# Altium footprint library PASSIVE_SMD.PCBLIB: 238 footprints (part 3 of 15)
Each footprint in its own frame and in the unit in brackets; x right, y up, seen from the top. Pads: shape width x height; smd on the part's side, far side on the other; paste and mask are expansions set on the pad; w line width, h text height; cw(c..) or ccw(c..) is an arc to the next point about the centre after c.
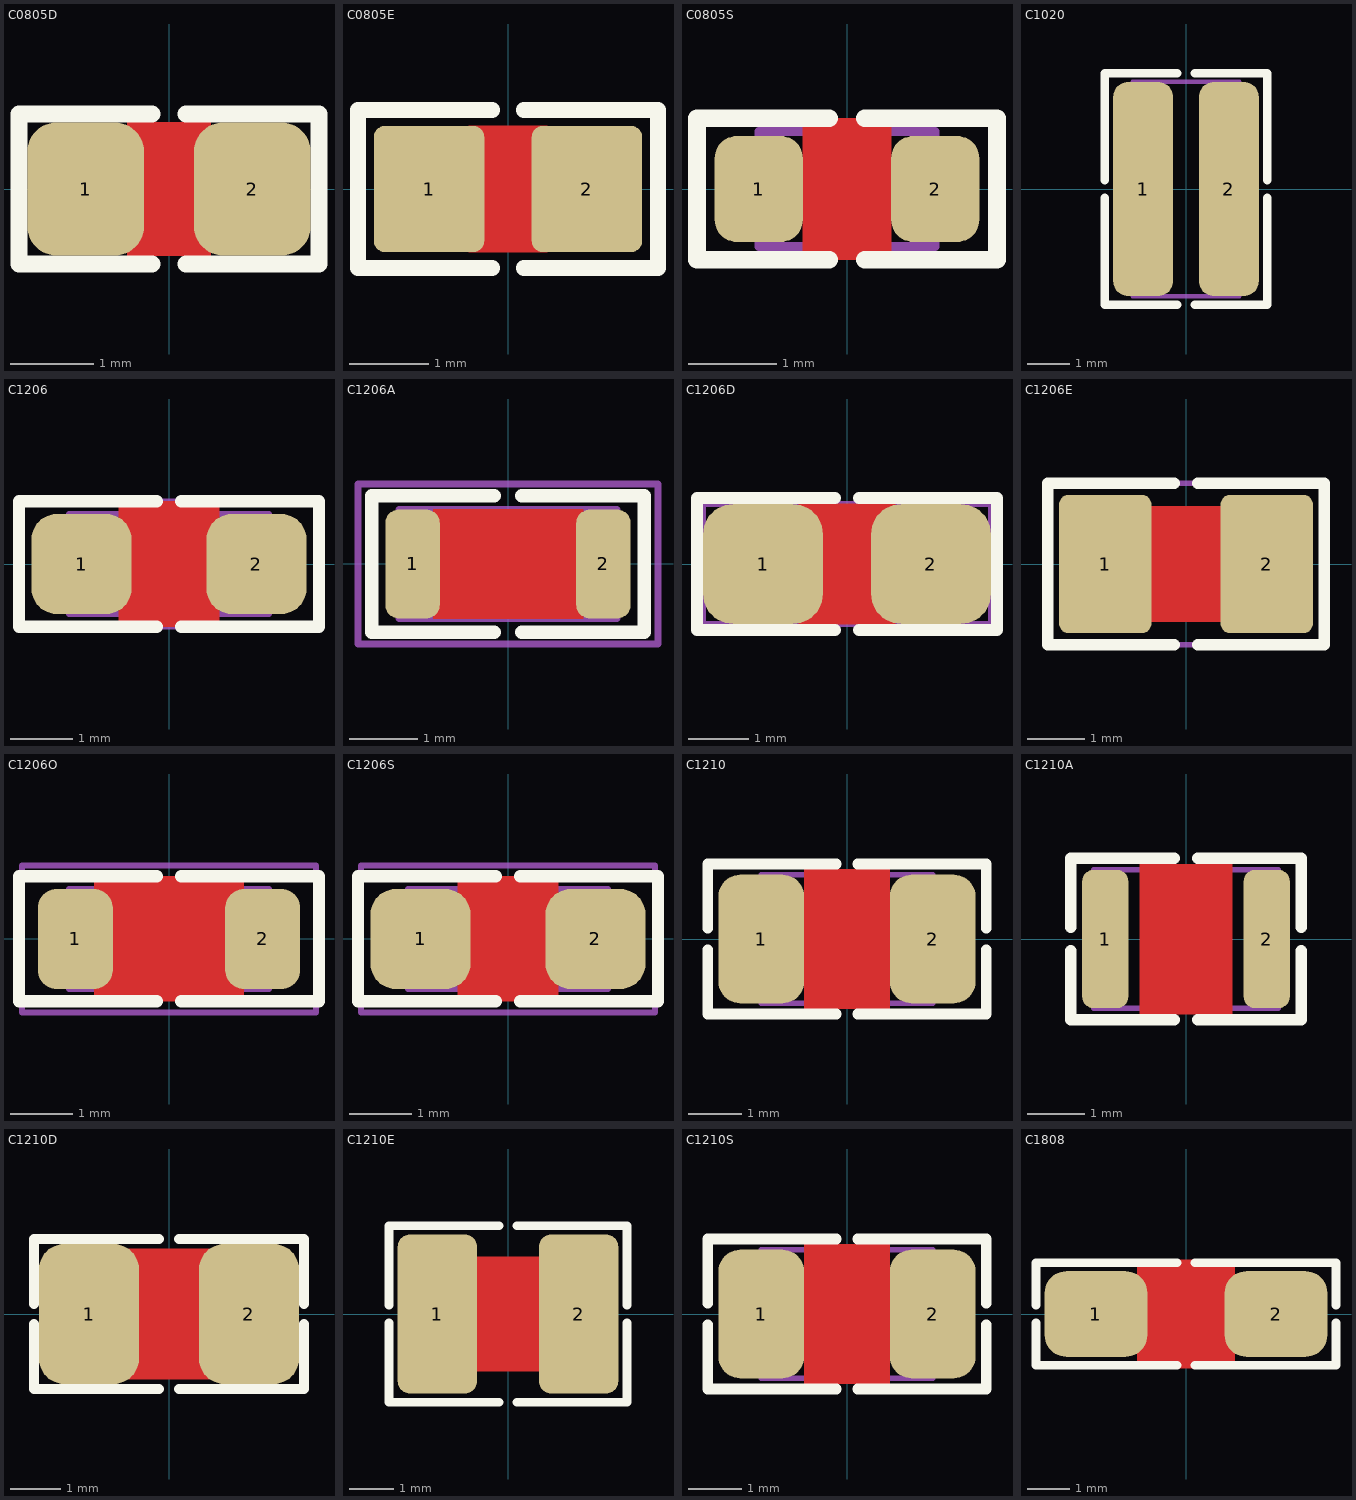
[diagram p2: the footprints below, top view; thin cyan lines are the x and y axes]

## C0805D [mm] "CHIP Capacitor, 2.0X1.3mm, 0805, SMD (SolderMask Defined)"
pads (2):
  rrect50% 1.4x1.6 smd paste-5 mask-0.2: 1(-1,0) 2(1,0)
Top Layer:
  pour cut-out: -0.5,0.8 0.5,0.8 0.5,-0.8 -0.5,-0.8
Top Overlay:
  lines w0.2: -0.2,-0.9 -1.8,-0.9 -1.8,0.9 -0.2,0.9 ; 0.2,-0.9 1.8,-0.9 1.8,0.9 0.2,0.9
Top Paste:
  region: -0.9,0.5 -0.82,0.5 -0.673,0.439 -0.561,0.327 -0.5,0.18 -0.5,0.1 -0.5,-0.1 -0.5,-0.18 -0.561,-0.327 -0.673,-0.439 -0.82,-0.5 -0.9,-0.5 -1.15,-0.5 -1.18,-0.5 -1.235,-0.477 -1.277,-0.435 -1.3,-0.38 -1.3,-0.35 -1.3,0.35 -1.3,0.38 -1.277,0.435 -1.235,0.477 -1.18,0.5 -1.15,0.5
  region: 0.9,0.5 0.82,0.5 0.673,0.439 0.561,0.327 0.5,0.18 0.5,0.1 0.5,-0.1 0.5,-0.18 0.561,-0.327 0.673,-0.439 0.82,-0.5 0.9,-0.5 1.15,-0.5 1.18,-0.5 1.235,-0.477 1.277,-0.435 1.3,-0.38 1.3,-0.35 1.3,0.35 1.3,0.38 1.277,0.435 1.235,0.477 1.18,0.5 1.15,0.5
Mechanical 13:
  lines w0.1: -1,-0.65 -1,0.65 1,0.65 1,-0.65 -1,-0.65
3D body "User Library-CAPC2013X10.step": height 1, standoff 0, extent -1,-0.625 1,0.625

## C0805E [mm] "CHIP Capacitor, 2.0X1.3mm, 0805, EXPANDED PAD"
pads (2):
  rrect20% 1.4x1.6 smd paste-0.7 mask+0.1: 1(-1,0) 2(1,0)
Top Layer:
  pour cut-out: -0.5,0.8 0.5,0.8 0.5,-0.8 -0.5,-0.8
Top Overlay:
  lines w0.2: -0.2,-1 -1.9,-1 -1.9,1 -0.2,1 ; 0.2,-1 1.9,-1 1.9,1 0.2,1
Top Paste:
  region: 0.5,0.2 0.5,0.28 0.561,0.427 0.673,0.539 0.82,0.6 0.9,0.6 1.4,0.6 1.44,0.6 1.513,0.57 1.57,0.513 1.6,0.44 1.6,0.4 1.6,-0.4 1.6,-0.44 1.57,-0.513 1.513,-0.57 1.44,-0.6 1.4,-0.6 0.9,-0.6 0.82,-0.6 0.673,-0.539 0.561,-0.427 0.5,-0.28 0.5,-0.2
  region: -0.5,0.2 -0.5,0.28 -0.561,0.427 -0.673,0.539 -0.82,0.6 -0.9,0.6 -1.4,0.6 -1.44,0.6 -1.513,0.57 -1.57,0.513 -1.6,0.44 -1.6,0.4 -1.6,-0.4 -1.6,-0.44 -1.57,-0.513 -1.513,-0.57 -1.44,-0.6 -1.4,-0.6 -0.9,-0.6 -0.82,-0.6 -0.673,-0.539 -0.561,-0.427 -0.5,-0.28 -0.5,-0.2
3D body "User Library-CAPC2013X10.step": height 1, standoff 0, extent -1,-0.625 1,0.625

## C0805S [mm] "CHIP Capacitor, 2.0X1.3mm, 0805, soldered"
pads (2):
  rrect50% 1x1.2 smd paste-0.1 mask+0.075: 1(-1,0) 2(1,0)
Top Layer:
  pour cut-out: -0.5,0.8 0.5,0.8 0.5,-0.8 -0.5,-0.8
Top Overlay:
  lines w0.2: -0.2,-0.8 -1.7,-0.8 -1.7,0.8 -0.2,0.8 ; 0.2,-0.8 1.7,-0.8 1.7,0.8 0.2,0.8
Mechanical 13:
  lines w0.1: -1,-0.65 -1,0.65 1,0.65 1,-0.65 -1,-0.65
3D body "c0805_Cap.step": height 0.8, standoff 0, extent -1.4,-0.625 1.4,0.625

## C1020 [mm] "CHIP Capacitor, 2.50x5.00mm"
height 0.6
pads (2):
  rrect50% 1.4x5 smd mask+0.1: 1(-1,0) 2(1,0)
Top Overlay:
  lines w0.2: -1.9,-0.2 -1.9,-2.7 -0.2,-2.7 ; -1.9,0.2 -1.9,2.7 -0.2,2.7 ; 0.2,-2.7 1.9,-2.7 1.9,-0.2 ; 0.2,2.7 1.9,2.7 1.9,0.2
Mechanical 13:
  lines w0.1: -1.25,-2.5 1.25,-2.5 1.25,2.5 -1.25,2.5 -1.25,-2.5
3D body: height 0.6, standoff 0, extent 0.35,-2.5 1.25,2.5
3D body: height 0.6, standoff 0, extent -1.25,-2.5 -0.35,2.5
3D body: height 0.6, standoff 0, extent -0.35,-2.5 0.35,2.5

## C1206 [mm] "CHIP Capacitor, 3.2X1.6mm, 1206"
height 2
pads (2):
  rrect50% 1.6x1.6 smd paste-0.8 mask+0.075: 1(-1.4,0) 2(1.4,0)
Top Layer:
  pour cut-out: -0.8,1 -0.8,-1 0.8,-1 0.8,1
Top Overlay:
  lines w0.2: -0.2,-1 -2.4,-1 -2.4,1 -0.2,1 ; 0.2,-1 2.4,-1 2.4,1 0.2,1
Top Paste:
  region: -0.7,-0.1 -0.7,0.1 -0.7,0.219 -0.791,0.44 -0.96,0.609 -1.181,0.7 -1.3,0.7 -1.8,0.7 -1.86,0.7 -1.97,0.654 -2.054,0.57 -2.1,0.46 -2.1,0.4 -2.1,-0.4 -2.1,-0.46 -2.054,-0.57 -1.97,-0.654 -1.86,-0.7 -1.8,-0.7 -1.3,-0.7 -1.181,-0.7 -0.96,-0.609 -0.791,-0.44 -0.7,-0.219
  region: 0.7,-0.1 0.7,0.1 0.7,0.219 0.791,0.44 0.96,0.609 1.181,0.7 1.3,0.7 1.8,0.7 1.86,0.7 1.97,0.654 2.054,0.57 2.1,0.46 2.1,0.4 2.1,-0.4 2.1,-0.46 2.054,-0.57 1.97,-0.654 1.86,-0.7 1.8,-0.7 1.3,-0.7 1.181,-0.7 0.96,-0.609 0.791,-0.44 0.7,-0.219
Mechanical 13:
  lines w0.1: -1.6,-0.8 1.6,-0.8 1.6,0.8 -1.6,0.8 -1.6,-0.8
Mechanical 15:
  lines w0.1: -0.5,0 0.5,0 ; 0,-0.5 0,0.5 ; -2.4,-1 2.4,-1 2.4,1 -2.4,1 -2.4,-1
3D body "User Library-CAPC3216X10.step": height 1, standoff 0, extent -1.6,-0.8 1.6,0.8

## C1206A [mm] "CHIP Capacitor, 3.2X1.6mm, 1206, for PCBA"
height 2
pads (2):
  rrect50% 0.8x1.6 smd mask+0.075: 1(-1.4,0) 2(1.4,0)
Top Layer:
  pour cut-out: -1.1,0.8 -1.1,-0.8 1.1,-0.8 1.1,0.8
Top Overlay:
  lines w0.2: -0.2,-1 -2,-1 -2,1 -0.2,1 ; 0.2,-1 2,-1 2,1 0.2,1
Mechanical 13:
  lines w0.1: -1.6,-0.8 1.6,-0.8 1.6,0.8 -1.6,0.8 -1.6,-0.8
Mechanical 15:
  lines w0.1: -0.5,0 0.5,0 ; 0,-0.5 0,0.5 ; -2.2,-1.175 -2.2,1.175 2.2,1.175 2.2,-1.175 -2.2,-1.175
3D body "User Library-CAPC3216X10.step": height 1, standoff 0, extent -1.6,-0.8 1.6,0.8

## C1206D [mm] "CHIP Capacitor, 3.2X1.6mm, 1206, SMD (SolderMask Defined)"
height 2
pads (2):
  rrect50% 2x2 smd paste-1 mask-0.2: 1(-1.4,0) 2(1.4,0)
Top Layer:
  pour cut-out: -0.8,1 -0.8,-1 0.8,-1 0.8,1
Top Overlay:
  lines w0.2: -0.2,-1.1 -2.5,-1.1 -2.5,1.1 -0.2,1.1 ; 0.2,-1.1 2.5,-1.1 2.5,1.1 0.2,1.1
Top Paste:
  region: 0.7,-0.1 0.7,0.1 0.7,0.219 0.791,0.44 0.96,0.609 1.181,0.7 1.3,0.7 1.8,0.7 1.86,0.7 1.97,0.654 2.054,0.57 2.1,0.46 2.1,0.4 2.1,-0.4 2.1,-0.46 2.054,-0.57 1.97,-0.654 1.86,-0.7 1.8,-0.7 1.3,-0.7 1.181,-0.7 0.96,-0.609 0.791,-0.44 0.7,-0.219
  region: -0.7,-0.1 -0.7,0.1 -0.7,0.219 -0.791,0.44 -0.96,0.609 -1.181,0.7 -1.3,0.7 -1.8,0.7 -1.86,0.7 -1.97,0.654 -2.054,0.57 -2.1,0.46 -2.1,0.4 -2.1,-0.4 -2.1,-0.46 -2.054,-0.57 -1.97,-0.654 -1.86,-0.7 -1.8,-0.7 -1.3,-0.7 -1.181,-0.7 -0.96,-0.609 -0.791,-0.44 -0.7,-0.219
Mechanical 13:
  lines w0.1: -1.6,-0.8 -1.6,0.8 1.6,0.8 1.6,-0.8 -1.6,-0.8
Mechanical 15:
  lines w0.1: -0.5,0 0.5,0 ; 0,-0.5 0,0.5 ; -2.4,-1 -2.4,1 2.4,1 2.4,-1 -2.4,-1
3D body "User Library-CAPC3216X10.step": height 1, standoff 0, extent -1.6,-0.8 1.6,0.8

## C1206E [mm] "CHIP Capacitor, 3.2X1.6mm, 1206, EXPANDED PAD"
height 2
pads (2):
  rrect20% 1.6x2.4 smd paste-0.8 mask+0.075: 1(-1.4,0) 2(1.4,0)
Top Layer:
  pour cut-out: -0.8,1 -0.8,-1 0.8,-1 0.8,1
Top Overlay:
  lines w0.2: -0.2,-1.4 -2.4,-1.4 -2.4,1.4 -0.2,1.4 ; 0.2,-1.4 2.4,-1.4 2.4,1.4 0.2,1.4
Top Paste:
  region: -0.7,-0.2 -0.7,0.25 -0.7,0.359 -0.784,0.562 -0.938,0.716 -1.141,0.8 -1.25,0.8 -1.95,0.8 -1.99,0.8 -2.063,0.77 -2.12,0.713 -2.15,0.64 -2.15,0.6 -2.15,-0.55 -2.15,-0.59 -2.12,-0.663 -2.063,-0.72 -1.99,-0.75 -1.95,-0.75 -1.25,-0.75 -1.141,-0.75 -0.938,-0.666 -0.784,-0.512 -0.7,-0.309
  region: 0.7,-0.2 0.7,0.25 0.7,0.359 0.784,0.562 0.938,0.716 1.141,0.8 1.25,0.8 1.95,0.8 1.99,0.8 2.063,0.77 2.12,0.713 2.15,0.64 2.15,0.6 2.15,-0.55 2.15,-0.59 2.12,-0.663 2.063,-0.72 1.99,-0.75 1.95,-0.75 1.25,-0.75 1.141,-0.75 0.938,-0.666 0.784,-0.512 0.7,-0.309
Mechanical 13:
  lines w0.1: -1.6,-0.8 -1.6,0.8 1.6,0.8 1.6,-0.8 -1.6,-0.8
Mechanical 15:
  lines w0.1: -0.5,0 0.5,0 ; 0,-0.5 0,0.5 ; -2.4,-1.4 2.4,-1.4 2.4,1.4 -2.4,1.4 -2.4,-1.4
3D body "User Library-CAPC3216X10.step": height 1, standoff 0, extent -1.6,-0.8 1.6,0.8

## C1206O [mm] "CHIP Capacitor, 3.2X1.6mm, 1206"
height 2
pads (2):
  rrect50% 1.2x1.6 smd mask+0.075: 1(-1.5,0) 2(1.5,0)
Top Layer:
  pour cut-out: -1.2,1 -1.2,-1 1.2,-1 1.2,1
Top Overlay:
  lines w0.2: -0.2,-1 -2.4,-1 -2.4,1 -0.2,1 ; 0.2,-1 2.4,-1 2.4,1 0.2,1
Mechanical 13:
  lines w0.1: -1.6,-0.8 1.6,-0.8 1.6,0.8 -1.6,0.8 -1.6,-0.8
Mechanical 15:
  lines w0.1: -0.5,0 0.5,0 ; 0,-0.5 0,0.5 ; -2.35,-1.175 2.35,-1.175 2.35,1.175 -2.35,1.175 -2.35,-1.175
3D body "User Library-CAPC3216X10.step": height 1, standoff 0, extent -1.6,-0.8 1.6,0.8

## C1206S [mm] "CHIP Capacitor, 3.2X1.6mm, 1206, soldered"
height 2
pads (2):
  rrect50% 1.6x1.6 smd paste-0.1 mask+0.075: 1(-1.4,0) 2(1.4,0)
Top Layer:
  pour cut-out: -0.8,1 -0.8,-1 0.8,-1 0.8,1
Top Overlay:
  lines w0.2: -0.2,-1 -2.4,-1 -2.4,1 -0.2,1 ; 0.2,-1 2.4,-1 2.4,1 0.2,1
Mechanical 13:
  lines w0.1: -1.6,-0.8 -1.6,0.8 1.6,0.8 1.6,-0.8 -1.6,-0.8
Mechanical 15:
  lines w0.1: -0.5,0 0.5,0 ; 0,-0.5 0,0.5 ; -2.35,-1.175 -2.35,1.175 2.35,1.175 2.35,-1.175 -2.35,-1.175
3D body "c1206_Cap.step": height 1.25, standoff 0, extent -2.27,-0.8 2.27,0.8

## C1210 [mm] "CHIP Capacitor, 3.2X2.5mm, 1210, 3225"
pads (2):
  rrect50% 1.6x2.4 smd paste-0.157 mask+0.075: 1(-1.6,0) 2(1.6,0)
Top Layer:
  pour cut-out: -0.8,1.3 -0.8,-1.3 0.8,-1.3 0.8,1.3
Top Overlay:
  lines w0.2: -2.6,-0.2 -2.6,-1.4 -0.2,-1.4 ; -2.6,0.2 -2.6,1.4 -0.2,1.4 ; 0.2,-1.4 2.6,-1.4 2.6,-0.2 ; 0.2,1.4 2.6,1.4 2.6,0.2
Mechanical 13:
  lines w0.1: -1.6,-1.2 1.6,-1.2 1.6,1.2 -1.6,1.2 -1.6,-1.2
3D body "User Library-CAPC3225X10.step": height 1, standoff 0, extent -1.6,-1.25 1.6,1.25

## C1210A [mm] "CHIP Capacitor, 3.2X2.5mm, 1210, for PCBA"
pads (2):
  rrect50% 0.8x2.4 smd mask+0.075: 1(-1.4,0) 2(1.4,0)
Top Layer:
  pour cut-out: -0.8,1.3 -0.8,-1.3 0.8,-1.3 0.8,1.3
Top Overlay:
  lines w0.2: -2,-0.2 -2,-1.4 -0.2,-1.4 ; -2,0.2 -2,1.4 -0.2,1.4 ; 0.2,-1.4 2,-1.4 2,-0.2 ; 0.2,1.4 2,1.4 2,0.2
Mechanical 13:
  lines w0.1: -1.6,-1.2 1.6,-1.2 1.6,1.2 -1.6,1.2 -1.6,-1.2
3D body "User Library-CAPC3225X10.step": height 1, standoff 0, extent -1.6,-1.25 1.6,1.25

## C1210D [mm] "CHIP Capacitor, 3.2X2.5mm, 1210, 3225, SMD (SolderMask Defined)"
pads (2):
  rrect50% 2x2.8 smd paste-0.342 mask-0.2: 1(-1.6,0) 2(1.6,0)
Top Layer:
  pour cut-out: -0.8,1.3 -0.8,-1.3 0.8,-1.3 0.8,1.3
Top Overlay:
  lines w0.2: -2.7,-0.2 -2.7,-1.5 -0.2,-1.5 ; -2.7,0.2 -2.7,1.5 -0.2,1.5 ; 0.2,-1.5 2.7,-1.5 2.7,-0.2 ; 0.2,1.5 2.7,1.5 2.7,0.2
Mechanical 13:
  lines w0.1: -1.6,-1.2 1.6,-1.2 1.6,1.2 -1.6,1.2 -1.6,-1.2
3D body "User Library-CAPC3225X10.step": height 1, standoff 0, extent -1.6,-1.25 1.6,1.25

## C1210E [mm] "CHIP Capacitor, 3.2X2.5mm, EXPANDED PAD"
pads (2):
  rrect30% 1.8x3.6 smd paste-0.195 mask+0.075: 1(-1.6,0) 2(1.6,0)
Top Layer:
  pour cut-out: -0.8,1.3 -0.8,-1.3 0.8,-1.3 0.8,1.3
Top Overlay:
  lines w0.2: -2.7,-0.2 -2.7,-2 -0.2,-2 ; -2.7,0.2 -2.7,2 -0.2,2 ; 0.2,-2 2.7,-2 2.7,-0.2 ; 0.2,2 2.7,2 2.7,0.2
Mechanical 13:
  lines w0.1: -1.6,-1.2 -1.6,1.2 1.6,1.2 1.6,-1.2 -1.6,-1.2
3D body "User Library-CAPC3225X10.step": height 1, standoff 0, extent -1.6,-1.25 1.6,1.25

## C1210S [mm] "CHIP Capacitor, 3.2X2.5mm, 1210, 3225, Soldered"
pads (2):
  rrect50% 1.6x2.4 smd paste-0.157 mask+0.075: 1(-1.6,0) 2(1.6,0)
Top Layer:
  pour cut-out: -0.8,1.3 -0.8,-1.3 0.8,-1.3 0.8,1.3
Top Overlay:
  lines w0.2: -2.6,-0.2 -2.6,-1.4 -0.2,-1.4 ; -2.6,0.2 -2.6,1.4 -0.2,1.4 ; 0.2,-1.4 2.6,-1.4 2.6,-0.2 ; 0.2,1.4 2.6,1.4 2.6,0.2
Mechanical 13:
  lines w0.1: -1.6,-1.2 -1.6,1.2 1.6,1.2 1.6,-1.2 -1.6,-1.2
3D body "c1210_Cap.step": height 1.61, standoff 0, extent -2.47,-1.25 2.47,1.25

## C1808 [mm] "CHIP Capacitor, 4.6X2.0mm, 1808, 1806, 4620, 4520"
pads (2):
  rrect50% 2.4x2 smd paste-0.179 mask+0.075: 1(-2.1,0) 2(2.1,0)
Top Layer:
  pour cut-out: -1.143,1.27 1.143,1.27 1.143,-1.27 -1.143,-1.27
Top Overlay:
  lines w0.2: -3.5,-0.2 -3.5,-1.2 -0.2,-1.2 ; -3.5,0.2 -3.5,1.2 -0.2,1.2 ; 0.2,-1.2 3.5,-1.2 3.5,-0.2 ; 0.2,1.2 3.5,1.2 3.5,0.2
3D body "User Library-Chip Cap_MLCC_1808 (4520)_D.step": height 1.25, standoff 0, extent -2.25,-1 2.25,1.03